# Altium schematic symbol library Schlib1.SchLib: 4 symbols
Pins are listed as number, name and electrical type; pins without a type are passive.

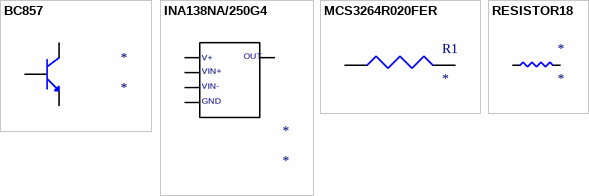
[diagram p0: symbols BC857 to RESISTOR18]

## BC857
designator *
Supplier 1: Digi-Key; Supplier Part Number 1: 1727-4870-1-ND
pins: 4, 5, 6

## INA138NA/250G4
designator *
Supplier 1: Digi-Key; Supplier Part Number 1: 296-35902-1-ND
pins: 7, 8, 9, 10, 11
text: V+; OUT; VIN+; VIN-; GND

## MCS3264R020FER
designator R1
Supplier 1: Digi-Key; Supplier Part Number 1: MCS3264R020FERCT-ND
footprint Resistor
pins: 0, 1

## RESISTOR18
designator *
Supplier 1: Digi-Key; Supplier Part Number 1: MCS3264R020FERCT-ND
footprint r18
pins: 2, 3